# Altium footprint library 429A-2-V1.0.13.PcbLib: 44 footprints (part 2 of 3)
Each footprint in its own frame and in the unit in brackets; x right, y up, seen from the top. Pads: shape width x height; smd on the part's side, far side on the other; paste and mask are expansions set on the pad; w line width, h text height; cw(c..) or ccw(c..) is an arc to the next point about the centre after c.
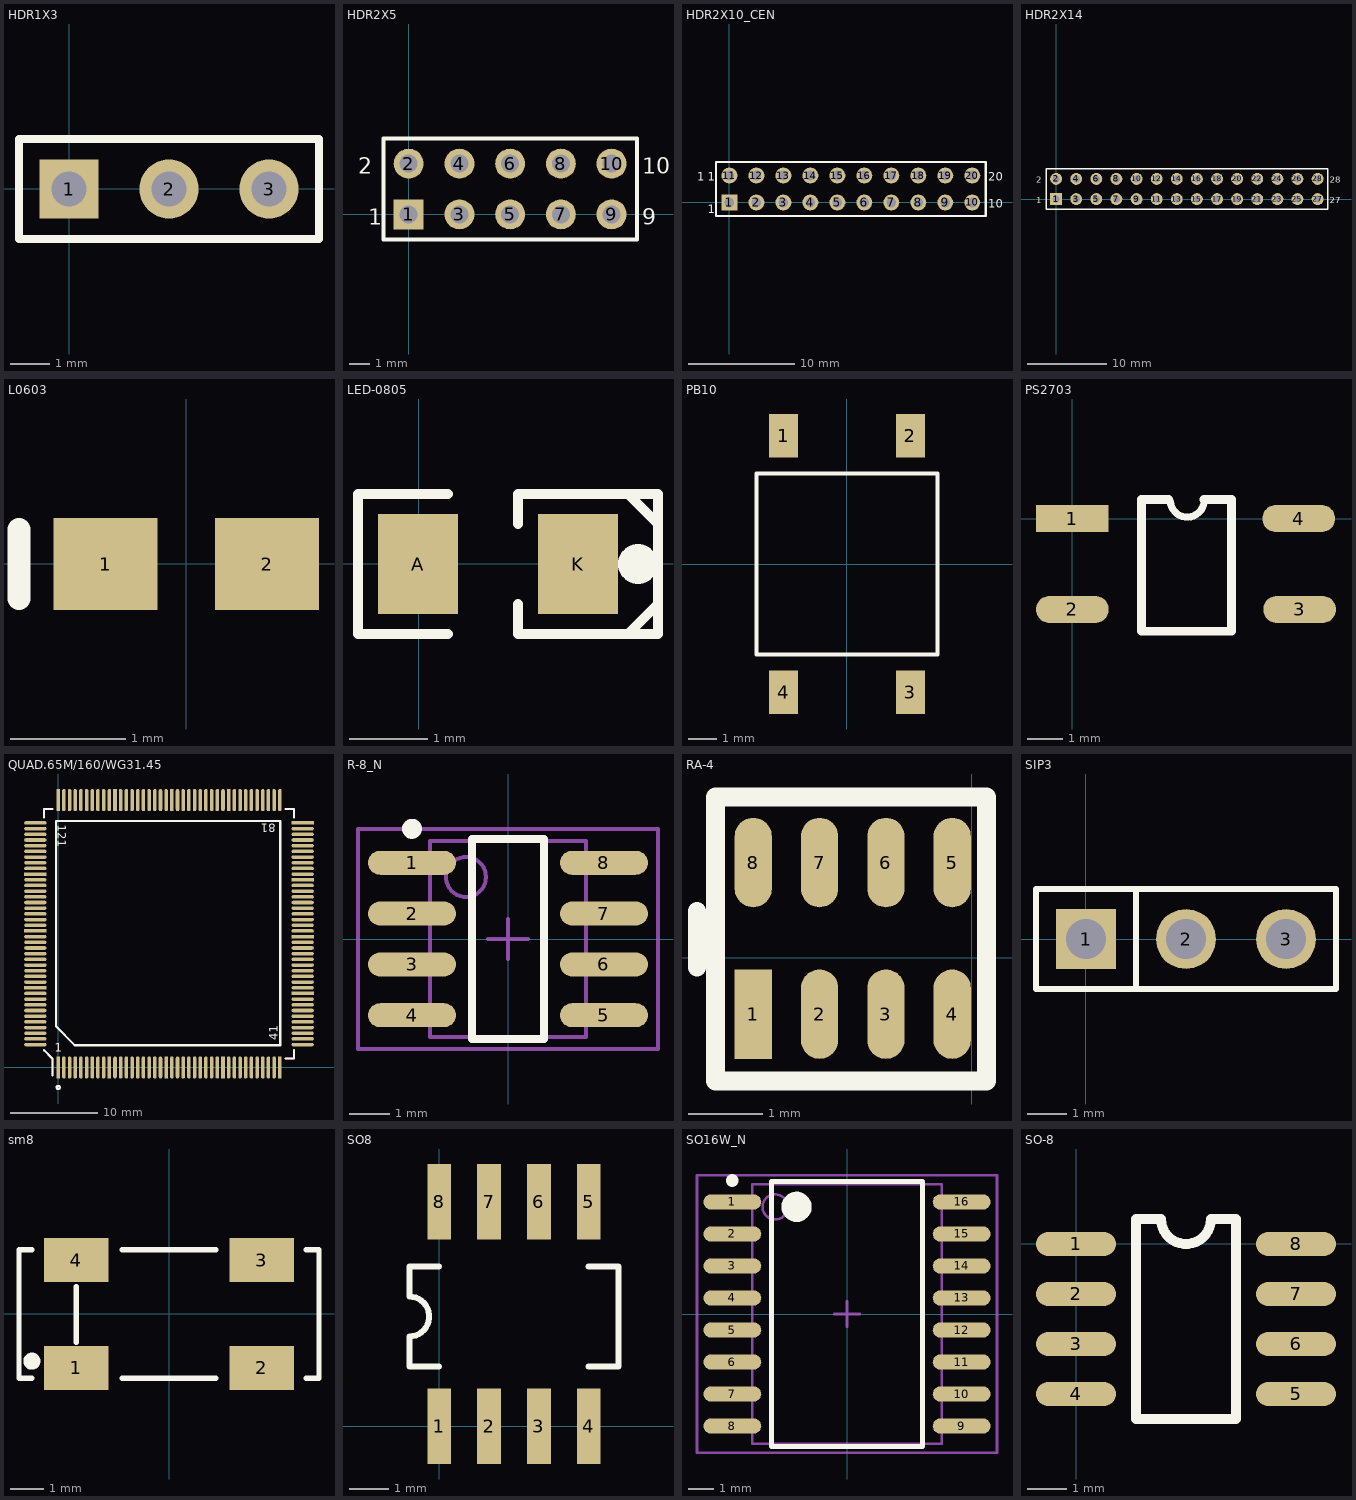
[diagram p1: the footprints below, top view; thin cyan lines are the x and y axes]

## HDR1X3 [mm] "Connector; Header; 3 Position"
pads (3):
  rect 1.5x1.5 hole 0.9: 1(0,0)
  round 1.5 hole 0.9: 2(2.54,0) 3(5.08,0)
Top Overlay:
  lines w0.2: -1.27,-1.27 6.35,-1.27 6.35,1.27 -1.27,1.27 -1.27,-1.27

## HDR2X5 [mm] "Connector; Header; 5x2 Position"
pads (10):
  rect 1.5x1.5 hole 0.9: 1(0,0)
  round 1.5 hole 0.9: 2(0,2.54) 3(2.54,0) 4(2.54,2.54) 5(5.08,0) 6(5.08,2.54) 7(7.62,0) 8(7.62,2.54) 9(10.16,0) 10(10.16,2.54)
Top Overlay:
  lines w0.2: -1.27,-1.27 -1.27,3.81 11.43,3.81 11.43,-1.27 -1.27,-1.27
  text "2" at -2.54,2.032 h0.8
  text "1" at -2.032,-0.508 h0.8
  text "9" at 11.684,-0.508 h0.8
  text "10" at 11.684,2.032 h0.8

## HDR2X10_CEN [mm] "Connector; Header; 10x2 Position"
pads (20):
  rect 1.5x1.5 hole 0.9: 1(0,0)
  round 1.5 hole 0.9: 2(2.54,0) 3(5.08,0) 4(7.62,0) 5(10.16,0) 6(12.7,0) 7(15.24,0) 8(17.78,0) 9(20.32,0) 10(22.86,0) 11(0,2.54) 12(2.54,2.54) 13(5.08,2.54) 14(7.62,2.54) 15(10.16,2.54) 16(12.7,2.54) 17(15.24,2.54) 18(17.78,2.54) 19(20.32,2.54) 20(22.86,2.54)
Top Overlay:
  lines w0.2: -1.27,-1.27 -1.27,3.81 24.13,3.81 24.13,-1.27 -1.27,-1.27
  text "20" at 24.384,2.032 h0.8
  text "10" at 24.384,-0.508 h0.8
  text "1" at -2.032,2.032 h0.8
  text "1" at -3.048,2.032 h0.8
  text "1" at -2.032,-1.016 h0.8

## HDR2X14 [mm] "Connector; Header; 14x2 Position"
pads (28):
  rect 1.5x1.5 hole 0.9: 1(0,0)
  round 1.5 hole 0.9: 2(0,2.54) 3(2.54,0) 4(2.54,2.54) 5(5.08,0) 6(5.08,2.54) 7(7.62,0) 8(7.62,2.54) 9(10.16,0) 10(10.16,2.54) 11(12.7,0) 12(12.7,2.54) 13(15.24,0) 14(15.24,2.54) 15(17.78,0) 16(17.78,2.54) 17(20.32,0) 18(20.32,2.54) 19(22.86,0) 20(22.86,2.54) 21(25.4,0) 22(25.4,2.54) 23(27.94,0) 24(27.94,2.54) 25(30.48,0) 26(30.48,2.54) 27(33.02,0) 28(33.02,2.54)
Top Overlay:
  lines w0.2: -1.27,-1.27 34.29,-1.27 34.29,3.81 -1.27,3.81 -1.27,-1.27
  text "28" at 34.544,2.032 h0.8
  text "27" at 34.544,-0.508 h0.8
  text "1" at -2.54,-0.508 h0.8
  text "2" at -2.54,2.032 h0.8

## L0603 [mm] "Chip Inductor; Body 1.6 x 0.8 mm (LxW typ)"
height 0.55
pads (2):
  rect 0.9x0.8 smd: 1(-0.7,0) 2(0.7,0)
Top Overlay:
  lines w0.2: -1.45,-0.3 -1.45,0.3

## LED-0805 [mil]
pads (3):
  rect 40x50 smd: A(-0.37,-0.08) K(79.63,-0.08)
  round 20 on Top Overlay: ""(109.63,-0.08)
Top Overlay:
  lines w5: 14.63,-35.08 -30.37,-35.08 -30.37,34.92 14.63,34.92 ; 49.63,-20.08 49.63,-35.08 109.63,-35.08 119.63,-35.08 119.63,34.92 109.63,34.92 49.63,34.92 49.63,19.92 ; 104.63,-35.08 119.63,-20.08 ; 104.63,34.92 119.63,19.92

## PB10 [mil]
pads (4):
  rect 40x60 smd: 1(-87.5,177.17) 2(87.5,177.17) 3(87.5,-177.16) 4(-87.5,-177.16)
Top Overlay:
  lines w6: -125,-125 125,-125 125,125 -125,125 -125,-125

## PS2703 [mil]
pads (4):
  rect 80x30 smd: 1(0,0)
  oval 80x30 smd: 2(0,-100) 3(250,-100) 4(249,0)
Top Overlay:
  lines w7.87: 107.7,18.89 ccw(c126.33,20.22) 145,21
  lines w9.84: 105.59,21 76,21 76,-124 175,-124 175,21 145,21

## QUAD.65M/160/WG31.45 [mil]
pads (160):
  rect 16x100 smd: 1(0,0) 10(230.4,0) 20(486.4,0) 30(742.4,0) 40(998.4,0) 90(768,1204.4) 100(512,1204.4) 110(256,1204.4) 120(0,1204.4)
  oval 16x100 smd: 2(25.6,0) 3(51.2,0) 4(76.8,0) 5(102.4,0) 6(128,0) 7(153.6,0) 8(179.2,0) 9(204.8,0) 11(256,0) 12(281.6,0) 13(307.2,0) 14(332.8,0) 15(358.4,0) 16(384,0) 17(409.6,0) 18(435.2,0) 19(460.8,0) 21(512,0) 22(537.6,0) 23(563.2,0) 24(588.8,0) 25(614.4,0) 26(640,0) 27(665.6,0) 28(691.2,0) 29(716.8,0) 31(768,0) 32(793.6,0) 33(819.2,0) 34(844.8,0) 35(870.4,0) 36(896,0) 37(921.6,0) 38(947.2,0) 39(972.8,0) 81(998.4,1204.4) 82(972.8,1204.4) 83(947.2,1204.4) 84(921.6,1204.4) 85(896,1204.4) 86(870.4,1204.4) 87(844.8,1204.4) 88(819.2,1204.4) 89(793.6,1204.4) 91(742.4,1204.4) 92(716.8,1204.4) 93(691.2,1204.4) 94(665.6,1204.4) 95(640,1204.4) 96(614.4,1204.4) 97(588.8,1204.4) 98(563.2,1204.4) 99(537.6,1204.4) 101(486.4,1204.4) 102(460.8,1204.4) 103(435.2,1204.4) 104(409.6,1204.4) 105(384,1204.4) 106(358.4,1204.4) 107(332.8,1204.4) 108(307.2,1204.4) 109(281.6,1204.4) 111(230.4,1204.4) 112(204.8,1204.4) 113(179.2,1204.4) 114(153.6,1204.4) 115(128,1204.4) 116(102.4,1204.4) 117(76.8,1204.4) 118(51.2,1204.4) 119(25.6,1204.4)
  oval 100x16 smd: 41(1101.4,103) 42(1101.4,128.6) 43(1101.4,154.2) 44(1101.4,179.8) 45(1101.4,205.4) 46(1101.4,231) 47(1101.4,256.6) 48(1101.4,282.2) 49(1101.4,307.8) 51(1101.4,359) 52(1101.4,384.6) 53(1101.4,410.2) 54(1101.4,435.8) 55(1101.4,461.4) 56(1101.4,487) 57(1101.4,512.6) 58(1101.4,538.2) 59(1101.4,563.8) 61(1101.4,615) 62(1101.4,640.6) 63(1101.4,666.2) 64(1101.4,691.8) 65(1101.4,717.4) 66(1101.4,743) 67(1101.4,768.6) 68(1101.4,794.2) 69(1101.4,819.8) 71(1101.4,871) 72(1101.4,896.6) 73(1101.4,922.2) 74(1101.4,947.8) 75(1101.4,973.4) 76(1101.4,999) 77(1101.4,1024.6) 78(1101.4,1050.2) 79(1101.4,1075.8) 121(-103,1101.4) 122(-103,1075.8) 123(-103,1050.2) 124(-103,1024.6) 125(-103,999) 126(-103,973.4) 127(-103,947.8) 128(-103,922.2) 129(-103,896.6) 131(-103,845.4) 132(-103,819.8) 133(-103,794.2) 134(-103,768.6) 135(-103,743) 136(-103,717.4) 137(-103,691.8) 138(-103,666.2) 139(-103,640.6) 141(-103,589.4) 142(-103,563.8) 143(-103,538.2) 144(-103,512.6) 145(-103,487) 146(-103,461.4) 147(-103,435.8) 148(-103,410.2) 149(-103,384.6) 151(-103,333.4) 152(-103,307.8) 153(-103,282.2) 154(-103,256.6) 155(-103,231) 156(-103,205.4) 157(-103,179.8) 158(-103,154.2) 159(-103,128.6) 160(-103,103)
  rect 100x16 smd: 50(1101.4,333.4) 60(1101.4,589.4) 70(1101.4,845.4) 80(1101.4,1101.4) 130(-103,871) 140(-103,615) 150(-103,359)
Top Overlay:
  circle w10: c0,-90 r7.07
  lines w10: -63.3,77.2 -25.8,39.7 -25.8,-35.3 ; -63.3,1127.2 -63.3,1164.7 -25.8,1164.7 ; 1024.2,39.7 1061.7,39.7 1061.7,77.2 ; 1024.2,1164.7 1061.7,1164.7 1061.7,1127.2 ; -10,185 75,100 1000,100 1000,1110 -10,1110 -10,185
  text "1" at -14.68,71.58 h37.5
  text "41" at 989.83,121.92 h37.5
  text "121" at -1.43,1093.87 h37.5
  text "81" at 979.48,1097.83 h37.5
Mechanical 1:
  lines w10: -63.3,77.2 -25.8,39.7 -25.8,-35.3 ; -63.3,1127.2 -63.3,1164.7 -25.8,1164.7 ; 1024.2,39.7 1061.7,39.7 1061.7,77.2 ; 1024.2,1164.7 1061.7,1164.7 1061.7,1127.2

## R-8_N [mm] "SOIC, 8-Leads, Body 4.9x3.9mm, Pitch 1.27mm, IPC Medium Density"
height 1.75
pads (8):
  oval 2.2x0.6 smd: 1(-2.4,1.905) 2(-2.4,0.635) 3(-2.4,-0.635) 4(-2.4,-1.905) 5(2.4,-1.905) 6(2.4,-0.635) 7(2.4,0.635) 8(2.4,1.905)
Top Overlay:
  circle w0.25: c-2.4,2.755 r0.125
  lines w0.2: -0.9,-2.5 0.9,-2.5 0.9,2.5 -0.9,2.5 -0.9,-2.5
Mechanical 13:
  circle w0.1: c-1.05,1.55 r0.5
  lines w0.1: -1.95,-2.45 1.95,-2.45 1.95,2.45 -1.95,2.45 -1.95,-2.45
Mechanical 15:
  lines w0.1: -0.5,0 0.5,0 ; 0,-0.5 0,0.5 ; -3.75,-2.75 3.75,-2.75 3.75,2.75 -3.75,2.75 -3.75,-2.75
3D body: height 1.75, standoff 0, extent -1.95,-2.45 1.95,2.45

## RA-4 [mm]
pads (8):
  rect 0.5x1.2 smd: 1(-2.929,-0.753)
  oval 0.5x1.2 smd: 2(-2.04,-0.753) 3(-1.151,-0.753) 4(-0.262,-0.753) 5(-0.262,1.279) 6(-1.151,1.279) 7(-2.04,1.279) 8(-2.929,1.279)
Top Overlay:
  lines w0.245: -3.683,-0.127 -3.683,0.627
  lines w0.254: -3.437,-1.651 0.196,-1.651 0.196,2.159 -3.437,2.159 -3.437,-1.651

## SIP3 [mil]
pads (3):
  rect 60x60 hole 40: 1(0,0)
  round 60 hole 40: 2(100,0) 3(200,0)
Top Overlay:
  lines w6: 50,-50 50,50 ; -50,-50 -50,50 250,50 250,-50 -50,-50

## sm8 [mm]
pads (4):
  rect 1.9x1.3 smd: 1(-2.75,-1.6) 2(2.75,-1.6) 3(2.75,1.6) 4(-2.75,1.6)
Top Overlay:
  circle w0.254: c-4.064,-1.397 r0.127
  lines w0.152: -4.064,-1.905 -4.445,-1.905 -4.445,1.905 -4.064,1.905 ; -2.75,-0.838 -2.75,0.813 ; -1.397,-1.905 1.397,-1.905 ; -1.397,1.905 1.397,1.905 ; 4.064,-1.905 4.445,-1.905 4.445,-1.651 4.445,1.651 4.445,1.905 4.064,1.905

## SO8 [mil]
pads (8):
  rect 24x76 smd: 1(0,0) 2(50,0) 3(100,0) 4(150,0) 5(150,225) 6(100,225) 7(50,225) 8(0,225)
Top Overlay:
  lines w6: 0,60 -30,60 -30,90 ccw(c-30,110) -30,130 -30,160 0,160 ; 150,60 180,60 180,160 150,160

## SO16W_N [mm] "SOIC, 16-Leads, Body 10.3x7.5mm, Pitch 1.27mm, IPC Medium Density"
height 2.65
pads (16):
  oval 2.3x0.6 smd: 1(-4.55,4.445) 2(-4.55,3.175) 3(-4.55,1.905) 4(-4.55,0.635) 5(-4.55,-0.635) 6(-4.55,-1.905) 7(-4.55,-3.175) 8(-4.55,-4.445) 9(4.55,-4.445) 10(4.55,-3.175) 11(4.55,-1.905) 12(4.55,-0.635) 13(4.55,0.635) 14(4.55,1.905) 15(4.55,3.175) 16(4.55,4.445)
Top Overlay:
  circle w0.6: c-2,4.25 r0.3
  circle w0.25: c-4.55,5.295 r0.125
  lines w0.2: -3,-5.25 3,-5.25 3,5.25 -3,5.25 -3,-5.25
Mechanical 13:
  circle w0.1: c-2.85,4.25 r0.5
  lines w0.1: -3.75,-5.15 3.75,-5.15 3.75,5.15 -3.75,5.15 -3.75,-5.15
Mechanical 15:
  lines w0.1: -0.5,0 0.5,0 ; 0,-0.5 0,0.5 ; -5.95,-5.5 5.95,-5.5 5.95,5.5 -5.95,5.5 -5.95,-5.5
3D body: height 2.65, standoff 0, extent -3.75,-5.15 3.75,5.15

## SO-8 [mil]
pads (8):
  oval 80x24 smd: 1(-0.14,-0.18) 2(-0.14,-50.18) 3(-0.14,-100.18) 4(-0.14,-150.18) 5(219.86,-150.18) 6(219.86,-100.18) 7(219.86,-50.18) 8(219.86,-0.18)
Top Overlay:
  lines w10: 59.86,-175.18 159.86,-175.18 159.86,24.82 134.86,24.82 cw(c109.86,24.82) 84.86,24.82 59.86,24.82 59.86,-175.18